# Altium footprint library PANASONIC_ECQ-E4105KF.PcbLib: 1 footprints
Each footprint in its own frame and in the unit in brackets; x right, y up, seen from the top. Pads: shape width x height; smd on the part's side, far side on the other; paste and mask are expansions set on the pad; w line width, h text height; cw(c..) or ccw(c..) is an arc to the next point about the centre after c.
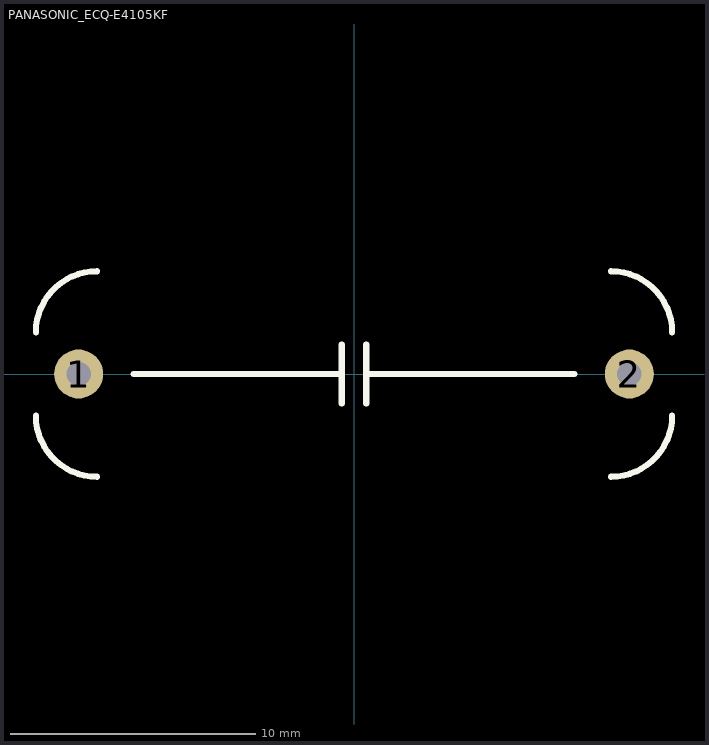
[diagram p0: the footprint, top view; thin cyan lines are the x and y axes]

## PANASONIC_ECQ-E4105KF [mm]
pads (2):
  round 2 hole 1: 1(-11.25,0) 2(11.25,0)
Top Overlay:
  lines w0.25: -13,-1.7 ccw(c-10.5,-1.7) -10.5,-4.2 ; -13,1.7 cw(c-10.5,1.7) -10.5,4.2 ; -9,0 -0.5,0 ; -0.5,-1.2 -0.5,1.2 ; 0.5,-1.2 0.5,1.2 ; 0.5,0 9,0 ; 10.5,-4.2 ccw(c10.5,-1.7) 13,-1.7 ; 10.5,4.2 cw(c10.5,1.7) 13,1.7
3D body: height 18, standoff 0, extent -13,-4.2 13,4.2